# EAGLE library part THS4631DDA (library THS4631DDA)
HIGH-VOLTAGE, HIGH SLEW RATE, WIDEBAND FET-INPUT OPERATIONAL AMPLIFIER
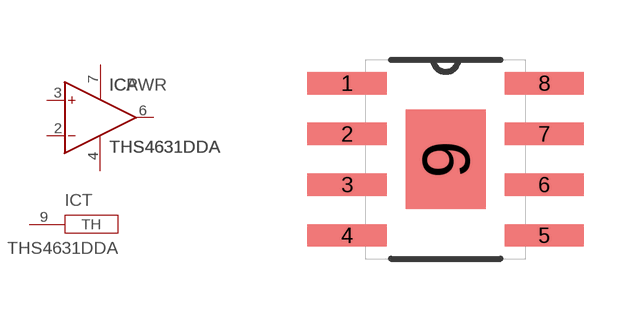
[diagram p0: symbol with the pads of SOIC127P600X170-9N; footprint SOIC127P600X170-9N]

Designator prefix IC; gates A=OP T=TH PWR=+-PWR

## THS4631DDA (AVAILABILITY: Unavailable; DESCRIPTION: High Speed FET-Input Operational Amplifier 8-SO PowerPAD -40 to 85; MF: Texas Instruments; MP: THS4631DDA; PACKAGE: PowerSOIC-8 Texas Instruments; PRICE: None)  [SOIC127P600X170-9N]
2  A:IN-  in
3  A:IN+  in
4  PWR:V-  pwr
6  A:OUT  out
7  PWR:V+  pwr
9  T:TH  pas

## Footprint SOIC127P600X170-9N (pad centres in mm)
smd 1.981 x 0.559: 1 -2.464,1.905; 2 -2.464,0.635; 3 -2.464,-0.635; 4 -2.464,-1.905; 5 2.464,-1.905; 6 2.464,-0.635; 7 2.464,0.635; 8 2.464,1.905
smd 2.007 x 2.489: 9 0,0